# Altium schematic symbol library PNP_ON_MMBT3906LT1G.SchLib: 1 symbol
Pins are listed as number, name and electrical type; pins without a type are passive.

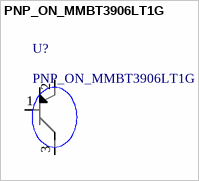
[diagram p0: symbol PNP_ON_MMBT3906LT1G]

## PNP_ON_MMBT3906LT1G
designator U?
pins: 1, 2, 3